# Altium integrated library LibJulian.IntLib: 7 symbols
Pins are listed as number, name and electrical type; pins without a type are passive.

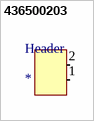
[diagram p0: symbol 436500203]

## 436500203
designator Header
Micro-Fit 3.0 Right-Angle Header, 3.00mm Pitch, Single Row, 2 Circuits, with PCB Press-fit Metal Retention Clip
pins: 1, 2


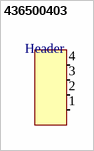
[diagram p1: symbol 436500403]

## 436500403
designator Header
Micro-Fit 3.0 Right-Angle Header, 3.00mm Pitch, Single Row, 4 Circuits, with PCB Press-fit Metal Retention Clip
pins: 1, 2 (power), 3, 4


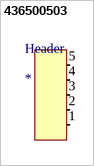
[diagram p2: symbol 436500503]

## 436500503
designator Header
Micro-Fit 3.0 Right-Angle Header, 3.00mm Pitch, Single Row, 5 Circuits, with PCB Press-fit Metal Retention Clip
pins: 1, 2, 3, 4, 5


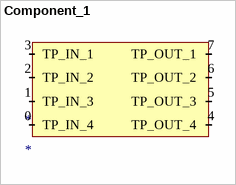
[diagram p3: symbol Component_1]

## Component_1
designator *
pins: 0 TP_IN_4, 1 TP_IN_3, 2 TP_IN_2, 3 TP_IN_1, 4 TP_OUT_4, 5 TP_OUT_3, 6 TP_OUT_2, 7 TP_OUT_1


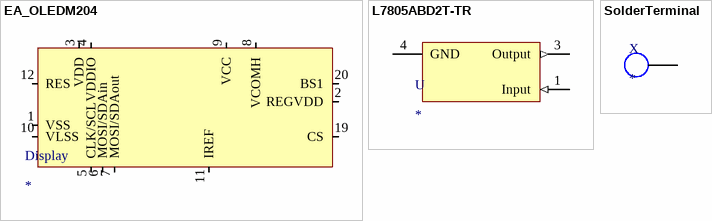
[diagram p4: symbols EA_OLEDM204 to SolderTerminal]

## EA_OLEDM204
designator Display
EA_OLEDM204
pins: 1 VSS "Ground", 2 REGVDD "Internal 3.3V regulator", 3 VDD "3.3V power supply", 4 VDDIO "Logic power supply", 5 CLK/SCL "Serial Clock", 6 MOSI/SDAin "Data in", 7 MOSI/SDAout "Data out", 8 VCOMH "COM signal", 9 VCC "OLED driving voltage", 10 VLSS "Analog Ground", 11 IREF "Segment current reference", 12 RES "Reset (active low)", 19 CS "Chip Select (active low)", 20 BS1

## L7805ABD2T-TR
designator U
Linear Voltage Regulators 5.0V 1.5A Positive
footprint DPAK228P1542X460-3N (D2-PAK, 3-Pads, Body 7,78x8,56mm (max), IPC Medium Density)
footprint DPAK254P1542X460-3M (D2-PAK, 3-Pads, Body 7,78x8,56mm (max), IPC Low Density)
pins: 1 Input (in) "Analog Ground", 3 Output (out) "Analog Ground", 4 GND "Analog Ground"

## SolderTerminal
designator X
footprint SolderTerminal
pins: 1 Terminal